# EAGLE library part CON-LSTA_FE08-1 (library Board1)
FEMALE HEADER
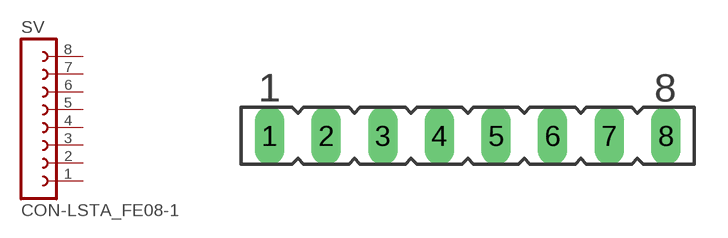
[diagram p3: symbol with the pads of CON-LSTA_FE08; footprint CON-LSTA_FE08]

Designator prefix SV

## CON-LSTA_FE08-1  [CON-LSTA_FE08]
1  1  pas
2  2  pas
3  3  pas
4  4  pas
5  5  pas
6  6  pas
7  7  pas
8  8  pas

## Footprint CON-LSTA_FE08 (pad centres in mm)
FEMALE HEADER
drill 0.813 long: 1 -8.89,0; 2 -6.35,0; 3 -3.81,0; 4 -1.27,0; 5 1.27,0; 6 3.81,0; 7 6.35,0; 8 8.89,0